# EAGLE library part AG98*M (library Domino)
Miniature PoE Module
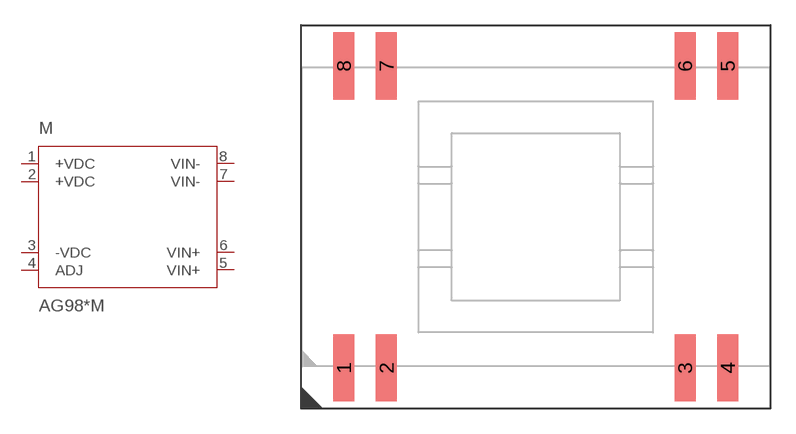
[diagram p31: symbol with the pads of AG9800M; footprint AG9800M]

Designator prefix M

## AG9803M (RATE: 6W; VOLT: 3.3V), AG9805M (RATE: 9W; VOLT: 5V), AG9812M (RATE: 12W; VOLT: 12V)  [AG9800M]
1  +VDC  sup
2  +VDC  sup
3  -VDC  sup
4  ADJ  pas
5  VIN+  pwr
6  VIN+  pwr
7  VIN-  pwr
8  VIN-  pwr

## Footprint AG9800M (pad centres in mm)
Miniature PoE Module
smd 1.25 x 4: 1 -11.43,-9; 2 -8.89,-9; 3 8.89,-9; 4 11.43,-9; 5 11.43,9; 6 8.89,9; 7 -8.89,9; 8 -11.43,9